# Altium footprint library QUTMS_USBLibrary.PcbLib: 4 footprints
Each footprint in its own frame and in the unit in brackets; x right, y up, seen from the top. Pads: shape width x height; smd on the part's side, far side on the other; paste and mask are expansions set on the pad; w line width, h text height; cw(c..) or ccw(c..) is an arc to the next point about the centre after c.
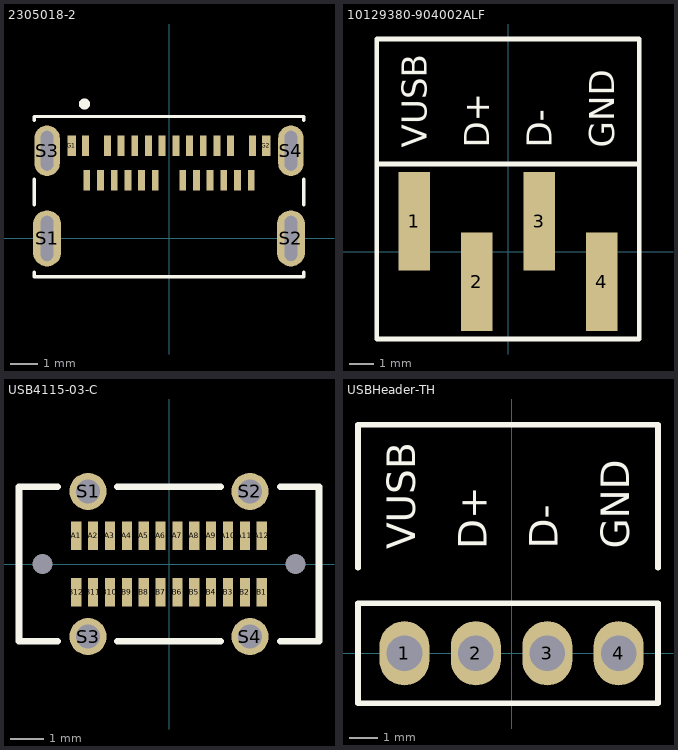
[diagram p0: the footprints below, top view; thin cyan lines are the x and y axes]

## 2305018-2 [mm]
pads (30):
  rect 0.25x0.75 smd: A1(-3.05,3.375) A2(-2.25,3.375) A3(-1.75,3.375) A4(-1.25,3.375) A5(-0.75,3.375) A6(-0.25,3.375) A7(0.25,3.375) A8(0.75,3.375) A9(1.25,3.375) A10(1.75,3.375) A11(2.25,3.375) A12(3.05,3.375) B1(3,2.125) B2(2.5,2.125) B3(2,2.125) B4(1.5,2.125) B5(1,2.125) B6(0.5,2.125) B7(-0.5,2.125) B8(-1,2.125) B9(-1.5,2.125) B10(-2,2.125) B11(-2.5,2.125) B12(-3,2.125)
  rect 0.3x0.75 smd: G1(-3.55,3.375) G2(3.55,3.375)
  oval 1.025x2.05 hole 0.45 slot 1.65 at 90 deg: S1(-4.45,0) S2(4.45,0)
  oval 0.925x1.85 hole 0.45 slot 1.45 at 90 deg: S3(-4.45,3.2) S4(4.45,3.2)
Top Overlay:
  circle w0.2: c-3.085,4.907 r0.1
  lines w0.127: -4.925,-1.231 -4.925,-1.4 4.925,-1.4 4.925,-1.231 ; -4.925,1.231 -4.925,2.155 ; -4.925,4.309 -4.925,4.45 4.925,4.45 4.925,4.309 ; 4.925,1.231 4.925,2.155
3D body "c-2305018-2-a-3d.stp": height 3.55, standoff -0.5, extent -4.918,-4.198 4.918,4.452

## 10129380-904002ALF [mm]
pads (4):
  rect 1.27x4 smd: 1(-3.81,1.225) 2(-1.27,-1.225) 3(1.27,1.225) 4(3.81,-1.225)
Top Overlay:
  lines w0.2: -5.334,3.556 -5.334,8.636 5.334,8.636 5.334,3.556 ; -5.334,3.556 -5.334,-3.556 5.334,-3.556 5.334,3.556 ; -5.334,3.556 5.334,3.556
  text "GND" at 4.318,4.216 h1.02
  text "D-" at 1.778,4.216 h1.02
  text "D+" at -0.762,4.216 h1.02
  text "VUSB" at -3.302,4.216 h1.02
3D body "s10129380-904002XLF.stp": height 11.92, standoff 0.03, extent -5.08,-2.413 5.08,2.381

## USB4115-03-C [mm]
pads (30):
  rect 0.3x0.85 smd: A1(-2.75,0.835) A2(-2.25,0.835) A3(-1.75,0.835) A4(-1.25,0.835) A5(-0.75,0.835) A6(-0.25,0.835) A7(0.25,0.835) A8(0.75,0.835) A9(1.25,0.835) A10(1.75,0.835) A11(2.25,0.835) A12(2.75,0.835) B1(2.75,-0.835) B2(2.25,-0.835) B3(1.75,-0.835) B4(1.25,-0.835) B5(0.75,-0.835) B6(0.25,-0.835) B7(-0.25,-0.835) B8(-0.75,-0.835) B9(-1.25,-0.835) B10(-1.75,-0.835) B11(-2.25,-0.835) B12(-2.75,-0.835)
  round 0 hole 0.6 mask+0.102: M1(-3.75,0)
  rect 0x0 hole 0.6: M2(3.75,0)
  round 1.1 hole 0.7: S1(-2.4,2.15) S2(2.4,2.15) S3(-2.4,-2.15) S4(2.4,-2.15)
Top Overlay:
  lines w0.2: -3.302,-2.286 -4.445,-2.286 -4.445,2.286 -3.302,2.286 ; -1.524,-2.286 1.524,-2.286 ; -1.524,2.286 1.524,2.286 ; 3.302,-2.286 4.445,-2.286 4.445,2.286 3.302,2.286
3D body "USB4115-03-C.stp": height 9.35, standoff -1.05, extent -4.47,-2.314 4.47,2.286

## USBHeader-TH [mil]
pads (4):
  oval 70x90 hole 50: 1(-150,0) 2(-50,0) 3(50,0) 4(150,0)
Top Overlay:
  lines w7.87: -215,120 -215,320 205,320 205,120 ; -215,-70 205,-70 205,70 -215,70 -215,-70
  text "VUSB" at -135.01,146 h40
  text "D+" at -35.01,146 h40
  text "D-" at 64.99,146 h40
  text "GND" at 164.99,146 h40
3D body "61300411121_Download_STP_61300411121_rev1.stp": height 341.22, standoff -113.11, extent -200,-50 200,50